# Altium schematic symbol library CDC3S04YFFR.SchLib: 2 symbols
Pins are listed as number, name and electrical type; pins without a type are passive.

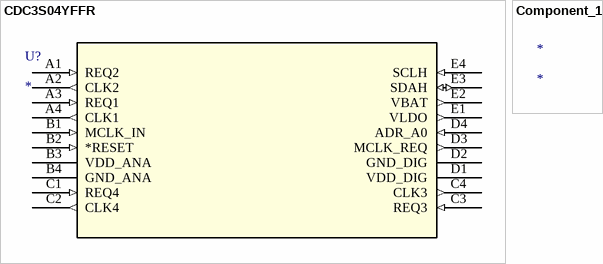
[diagram p0: symbols CDC3S04YFFR to Component_1]

## CDC3S04YFFR
designator U?
No Description Available; Mfr_Name: Texas Instruments; RefDes: RefDes; Type: Type
footprint YFF20
pins: A1 REQ2 (in), A2 CLK2 (out), A3 REQ1 (in), A4 CLK1 (out), B1 MCLK_IN (in), B2 *RESET (in), B3 VDD_ANA (power), B4 GND_ANA (power), C1 REQ4 (in), C2 CLK4 (out), C3 REQ3 (in), C4 CLK3 (out), D1 VDD_DIG (power), D2 GND_DIG (power), D3 MCLK_REQ (out), D4 ADR_A0 (in), E1 VLDO (out), E2 VBAT (out), E3 SDAH (io), E4 SCLH (in)

## Component_1
designator *